# EAGLE library part IRF8313P (library transistor-power-sven)
HEXFET(R) Power MOSFET Source: Data sheet <http://www.irf.com/product-info/datasheets/data/irf8313pbf.pdf>
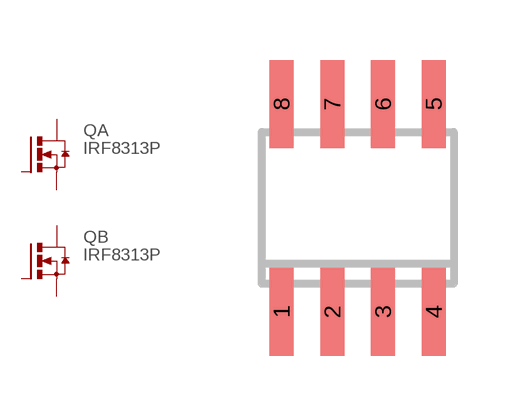
[diagram p1: symbol with the pads of SO-08; footprint SO-08]

Designator prefix Q; gates A=HEXFET_N B=HEXFET_N

## IRF8313P  [SO-08]
1  B:S  pas
2  B:G  pas
3  A:S  pas
4  A:G  pas
5  A:D  pas
6  A:D  pas
7  B:D  pas
8  B:D  pas

## Footprint SO-08 (pad centres in mm)
Small Outline Narrow Plastic Gull Wing 150-mil body, package type SN
smd 0.6 x 2.2: 1 -1.905,-2.6; 2 -0.635,-2.6; 3 0.635,-2.6; 4 1.905,-2.6; 5 1.905,2.6; 6 0.635,2.6; 7 -0.635,2.6; 8 -1.905,2.6